# Altium footprint library HEAT SINK.PcbLib: 1 footprints
Each footprint in its own frame and in the unit in brackets; x right, y up, seen from the top. Pads: shape width x height; smd on the part's side, far side on the other; paste and mask are expansions set on the pad; w line width, h text height; cw(c..) or ccw(c..) is an arc to the next point about the centre after c.
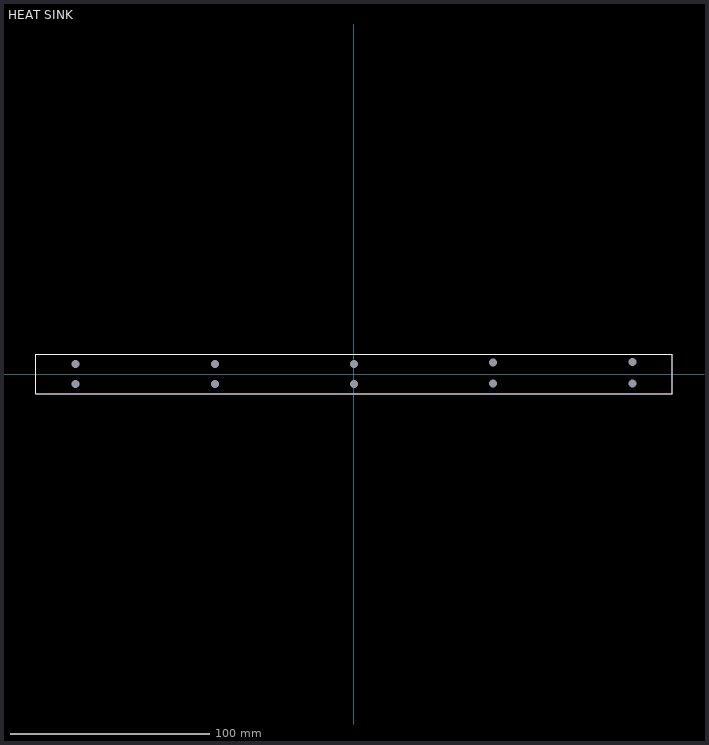
[diagram p0: the footprint, top view; thin cyan lines are the x and y axes]

## HEAT SINK [mm]
height 0.95
pads (10):
  round 1.524 hole 4 unplated: 5(-140,-5) 5(-140,5) 5(-70,-5) 5(-70,5) 5(0,-5) 5(0,5) 5(70,-4.722) 5(70,5.778) 5(140,-4.722) 5(140,6.028)
Top Overlay:
  lines w0.2: -160,-10 160,-10 160,10 -160,10 -160,-10
Top Assembly:
  lines w0.1: -0.25,0 0.25,0 ; 0,-0.25 0,0.25 ; -160,-10 -160,10 160,10 160,-10 -160,-10
  text "'.Designator'" at 0,0 h0.8
3D body "Водоблок1.STEP": height 95.5, standoff 0.5, extent -160,-10 160,10